# Altium schematic symbol library SN65HVD230DR.SchLib: 1 symbol
Pins are listed as number, name and electrical type; pins without a type are passive.

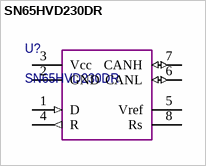
[diagram p0: symbol SN65HVD230DR]

## SN65HVD230DR
designator U?
CAN Interface IC STANDBY MODE
pins: 1 D (in), 2 GND, 3 Vcc, 4 R (out), 5 Vref, 6 CANL (io), 7 CANH (io), 8 Rs